# Altium schematic symbol library MS5611.SchLib: 1 symbol
Pins are listed as number, name and electrical type; pins without a type are passive.

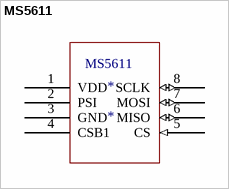
[diagram p0: symbol MS5611]

## MS5611
designator *
pins: 1 VDD (power), 2 PSI, 3 GND, 4 CSB1, 5 CS (in), 6 MISO (io), 7 MOSI (io), 8 SCLK (io)